# Altium schematic symbol library transistor.SchLib: 21 symbols
Pins are listed as number, name and electrical type; pins without a type are passive.

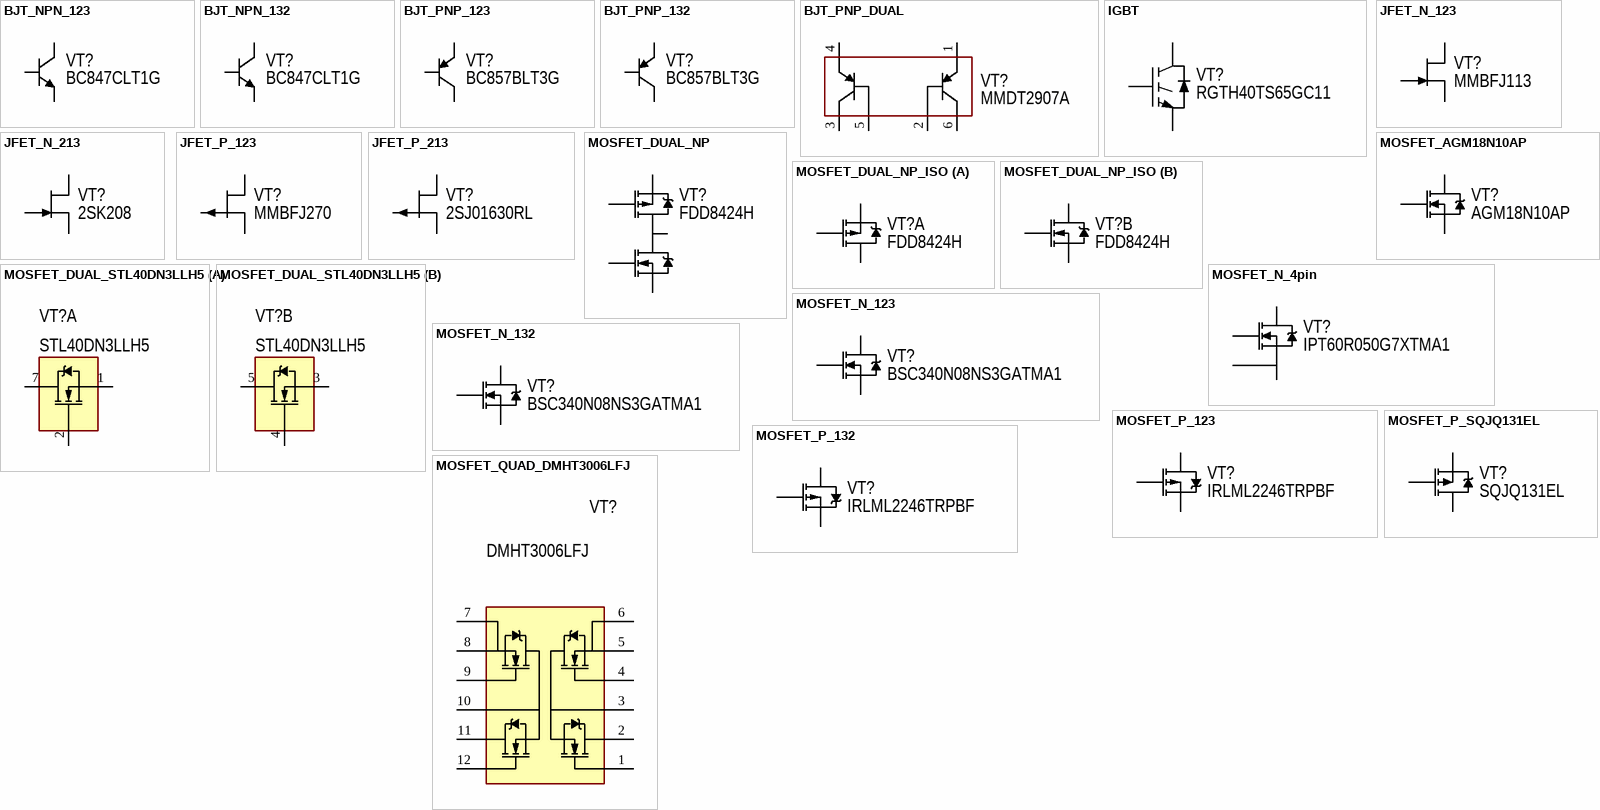
[diagram p0: symbols BJT_NPN_123 to MOSFET_QUAD_DMHT3006LFJ]

## BJT_NPN_123
designator VT?  PartNumber: BC847CLT1G
Manufacturer: ON Semiconductor; ValueManufacturerPartNumber: NPN transistor, 45V, 100mA, 100MHz, 300mW, 0.6V, 420, SOT-23, -55...+125°C; TypeTransistor: NPN transistor; VoltageCE: 45V; CurrentCE: 100mA; VoltageSaturation: 0.6V; Frequency: 100MHz; CurrentGain: 420; MaxPower: 300mW; Package: SOT-23; HelpURL: https://www.digikey.com/product-detail/en/on-semiconductor/BC847CLT1G/BC847CLT1GOSCT-ND/917836; Temperature: -55...+125°C
footprint DPAK
footprint D2PAK
footprint SOT23
footprint SOT89
footprint SOT223 (SOT223, 4-Leads, Body 6,50x7,00mm (avg), Pitch 2,30mm, IPC Medium Density)
footprint SC-70
pins: 1 B, 2 C, 3 E

## BJT_NPN_132
designator VT?  PartNumber: BC847CLT1G
Manufacturer: ON Semiconductor; ValueManufacturerPartNumber: NPN transistor, 45V, 100mA, 100MHz, 300mW, 0.6V, 420, SOT-23, -55...+125°C; TypeTransistor: NPN transistor; VoltageCE: 45V; CurrentCE: 100mA; VoltageSaturation: 0.6V; Frequency: 100MHz; CurrentGain: 420; MaxPower: 300mW; Package: SOT-23; HelpURL: https://www.digikey.com/product-detail/en/on-semiconductor/BC847CLT1G/BC847CLT1GOSCT-ND/917836; Temperature: -55...+125°C
footprint D2PAK
footprint DPAK
footprint SOT23
footprint SOT89
footprint SOT223 (SOT223, 4-Leads, Body 6,50x7,00mm (avg), Pitch 2,30mm, IPC Medium Density)
footprint SC-70
pins: 1 B, 2 E, 3 C

## BJT_PNP_123
designator VT?  PartNumber: BC857BLT3G
Manufacturer: ON Semiconductor; ValueManufacturerPartNumber: PNP transistor, 45V, 100mA, 100MHz, 300mW, 0.65V, 220, SOT-23, -55...+125°C; TypeTransistor: PNP transistor; VoltageCE: 45V; CurrentCE: 100mA; VoltageSaturation: 0.65V; Frequency: 100MHz; CurrentGain: 220; MaxPower: 300mW; Package: SOT-23; HelpURL: https://www.digikey.com/product-detail/en/on-semiconductor/BC857BLT3G/BC857BLT3GOSCT-ND/2704963; Temperature: -55...+125°C
footprint D2PAK
footprint DPAK
footprint SOT223 (SOT223, 4-Leads, Body 6,50x7,00mm (avg), Pitch 2,30mm, IPC Medium Density)
footprint SOT23
footprint SOT89
footprint SC-70
pins: 1 B, 2 E, 3 C

## BJT_PNP_132
designator VT?  PartNumber: BC857BLT3G
Manufacturer: ON Semiconductor; ValueManufacturerPartNumber: PNP transistor, 45V, 100mA, 100MHz, 300mW, 0.65V, 220, SOT-23, -55...+125°C; TypeTransistor: PNP transistor; VoltageCE: 45V; CurrentCE: 100mA; VoltageSaturation: 0.65V; Frequency: 100MHz; CurrentGain: 220; MaxPower: 300mW; Package: SOT-23; HelpURL: https://www.digikey.com/product-detail/en/on-semiconductor/BC857BLT3G/BC857BLT3GOSCT-ND/2704963; Temperature: -55...+125°C
footprint D2PAK
footprint DPAK
footprint SOT89
footprint SOT23
footprint SOT223 (SOT223, 4-Leads, Body 6,50x7,00mm (avg), Pitch 2,30mm, IPC Medium Density)
footprint SC-70
pins: 1 B, 2 C, 3 E

## BJT_PNP_DUAL
designator VT?  PartNumber: MMDT2907A
Manufacturer: Diodes Inc; ValueManufacturerPartNumber: PNP transistor, 60V, 600mA, 200MHz, 200mW, 1.6V, 100, SOT-363, -55...+125°C; TypeTransistor: PNP transistor; VoltageCE: 60V; CurrentCE: 600mA; VoltageSaturation: 1.6V; Frequency: 200MHz; CurrentGain: 100; MaxPower: 200mW; Package: SOT-363; HelpURL: https://www.diodes.com/assets/Datasheets/ds30109.pdf; Temperature: -55...+125°C
footprint SOT363
pins: 1 E, 2 B, 3 C, 4 E, 5 B, 6 C

## IGBT
designator VT?  PartNumber: RGTH40TS65GC11
Manufacturer: Rohm Semiconductor; ValueManufacturerPartNumber: IGBT transistor, 650V, 40A, 40nC, 144W, 2.1V, 22ns/73ns, TO247, -55...+125°C; TypeTransistor: IGBT transistor; VoltageCE: 650V; CurrentCE: 40A; VoltageSaturation: 2.1V; GateCharge: 40nC; TimeOnOff: 22ns/73ns; MaxPower: 144W; Package: TO247; HelpURL: https://www.digikey.com/product-detail/en/rohm-semiconductor/RGTH40TS65GC11/RGTH40TS65GC11-ND/5029953; Temperature: -55...+125°C
footprint TO220
footprint TO220(H)
footprint TO247 (3-Lead Plastic TO-247)
footprint TO247(H) (3-Lead Plastic TO-247)
pins: 1 G, 2 C, 3 E

## JFET_N_123
designator VT?  PartNumber: MMBFJ113
Manufacturer: ON Semiconductor; ValueManufacturerPartNumber: JFET N-Channel transistor, 35V, 2mA, 350mW, 100 Ohms, SOT-23, -55...+150°C; TypeTransistor: JFET N-Channel transistor; VoltageDS: 35V; CurrentDS: 2mA; RDS: 100 Ohms; MaxPower: 350mW; Package: SOT-23; HelpURL: https://www.digikey.com/product-detail/en/on-semiconductor/MMBFJ113/MMBFJ113TR-ND/1049302; Temperature: -55...+150°C
footprint SOT23
pins: 1 D, 2 S, 3 G

## JFET_N_213
designator VT?  PartNumber: 2SK208
Manufacturer: Toshiba Semiconductor and Storage; ValueManufacturerPartNumber: JFET N-Channel transistor, 50V, 6.5mA, 100mW, 100 Ohms, SOT-23, -55...+125°C; TypeTransistor: JFET N-Channel transistor; VoltageDS: 50V; CurrentDS: 6.5mA; RDS: 100 Ohms; MaxPower: 100mW; Package: SOT-23; HelpURL: https://www.digikey.com/product-detail/en/toshiba-semiconductor-and-storage/2SK208-R-TE85L-F/2SK208-R-TE85LF-TR-ND/4503056; Temperature: -55...+125°C
footprint SOT23
pins: 1 S, 2 D, 3 G

## JFET_P_123
designator VT?  PartNumber: MMBFJ270
Manufacturer: ON Semiconductor; ValueManufacturerPartNumber: JFET P-Channel transistor, 30V, 2mA, 225mW, 34mOhm, SOT-23, -55...+150°C; TypeTransistor: JFET P-Channel transistor; VoltageDS: 30V; CurrentDS: 2mA; RDS: 34mOhm; MaxPower: 225mW; Package: SOT-23; HelpURL: https://www.digikey.com/product-detail/en/on-semiconductor/MMBFJ270/MMBFJ270TR-ND/1050159; Temperature: -55...+150°C
footprint SOT23
pins: 1 D, 2 S, 3 G

## JFET_P_213
designator VT?  PartNumber: 2SJ01630RL
Manufacturer: Panasonic Electronic Components; ValueManufacturerPartNumber: JFET P-Channel transistor, 65V, 20mA, 150mW, 300 Ohms, SOT-23, -55...+150°C; TypeTransistor: JFET P-Channel transistor; VoltageDS: 65V; CurrentDS: 20mA; RDS: 300 Ohms; MaxPower: 150mW; Package: SOT-23; HelpURL: https://www.digikey.com/product-detail/en/panasonic-electronic-components/2SJ01630RL/2SJ01630RLTR-ND/972189; Temperature: -55...+150°C
footprint SOT23
pins: 1 S, 2 D, 3 G

## MOSFET_AGM18N10AP
designator VT?  PartNumber: AGM18N10AP
Manufacturer: AGM-Semi; ValueManufacturerPartNumber: MOSFET N-channel transistor, 100V, 35A, 12.5nC, 45W, 17mOhm, 573pF, PDFN-8, -55...+150°C; TypeTransistor: MOSFET N-channel transistor; VoltageDS: 100V; CurrentDS: 35A; RDS: 17mOhm; GateCharge: 12.5nC; InputCapacitor: 573pF; MaxPower: 45W; Package: PDFN-8; HelpURL: https://www.lcsc.com/product-detail/MOSFETs_AGM-Semi-AGM18N10AP_C7509649.html; Temperature: -55...+150°C
footprint 8-PDFN (3.3x3.3)
pins: D, G, S

## MOSFET_DUAL_NP
designator VT?  PartNumber: FDD8424H
Manufacturer: Fairchild; ValueManufacturerPartNumber: MOSFET P-channel transistor, 40, 20, N-14nC, P-17nC, 3.1W, N-24mOhm, P-54mOhm, N-750pF, P-1000pF, Dual DPAK 4L, -55...+150°C; TypeTransistor: MOSFET P-channel transistor; VoltageDS: 40; CurrentDS: 20; RDS: N-24mOhm, P-54mOhm; GateCharge: N-14nC, P-17nC; InputCapacitor: N-750pF, P-1000pF; MaxPower: 3.1W; Package: Dual DPAK 4L; HelpURL: https://www.mouser.com/datasheet/2/149/FDD8424H-92711.pdf; Temperature: -55...+150°C
footprint TO252-4L (Dual DPAK 4L)
pins: 1, 2, 3, 4, 5

## MOSFET_DUAL_NP_ISO
designator VT?  PartNumber: FDD8424H
Manufacturer: Fairchild; ValueManufacturerPartNumber: MOSFET P-channel transistor, 40, 20, N-14nC, P-17nC, 3.1W, N-24mOhm, P-54mOhm, N-750pF, P-1000pF, Dual DPAK 4L, -55...+150°C; TypeTransistor: MOSFET P-channel transistor; VoltageDS: 40; CurrentDS: 20; RDS: N-24mOhm, P-54mOhm; GateCharge: N-14nC, P-17nC; InputCapacitor: N-750pF, P-1000pF; MaxPower: 3.1W; Package: Dual DPAK 4L; HelpURL: https://www.mouser.com/datasheet/2/149/FDD8424H-92711.pdf; Temperature: -55...+150°C
footprint SOT563-6 (pitch 0.95 mm)
part A pins: 3, 4, 5
part B pins: 1, 2, 6

## MOSFET_DUAL_STL40DN3LLH5
designator VT?  PartNumber: STL40DN3LLH5
MOSFET Dual N-Ch 30V 11A 0.016 Ohm STripFET V; Manufacturer: STMicroelectronics; ValueManufacturerPartNumber: MOSFET N-channel transistor, 30V, 40A, 4.5nC, 60W, 16mOhm, 475pF, PowerFLAT-5x6-8, -55...+175°C; TypeTransistor: MOSFET N-channel transistor; CurrentDS: 40A; RDS: 16mOhm; GateCharge: 4.5nC; InputCapacitor: 475pF; MaxPower: 60W; Package: PowerFLAT-5x6-8; HelpURL: https://www.mouser.ee/datasheet/2/389/stl40dn3llh5-1851199.pdf; Temperature: -55...+175°C; VoltageDS: 30V
footprint PowerFLAT-Double (5x6)
part A pins: 1 S, 2 G, 7 D
part B pins: 3 S, 4 G, 5 D

## MOSFET_N_4pin
designator VT?  PartNumber: IPT60R050G7XTMA1
Manufacturer: Infineon Technologies; ValueManufacturerPartNumber: MOSFET N-channel transistor, 650V, 44A, 68nC, 245W, 50mOhm, 2670pF, 8-HSOF, -55...+150°C; TypeTransistor: MOSFET N-channel transistor; VoltageDS: 650V; CurrentDS: 44A; RDS: 50mOhm; GateCharge: 68nC; InputCapacitor: 2670pF; MaxPower: 245W; Package: 8-HSOF; HelpURL: https://www.digikey.com/product-detail/en/infineon-technologies/IPT60R050G7XTMA1/IPT60R050G7XTMA1CT-ND/8655796; Temperature: -55...+150°C
footprint HSOF-8-2 (8-HSOF)
pins: 1 G, 2 D, 3 S, 4 S

## MOSFET_N_123
designator VT?  PartNumber: BSC340N08NS3GATMA1
Manufacturer: Infineon Technologies; ValueManufacturerPartNumber: MOSFET N-channel transistor, 80V, 7A, 9.1nC, 2.5W, 34mOhm, 756pF, 8-TDSON, -55...+150°C; TypeTransistor: MOSFET N-channel transistor; VoltageDS: 80V; CurrentDS: 7A; RDS: 34mOhm; GateCharge: 9.1nC; InputCapacitor: 756pF; MaxPower: 2.5W; Package: 8-TDSON; HelpURL: https://www.digikey.com/product-detail/en/infineon-technologies/BSC340N08NS3GATMA1/BSC340N08NS3GATMA1TR-ND/2080655; Temperature: -55...+150°C
footprint SOT23
footprint TO220
footprint TO220(H)
footprint TO247 (3-Lead Plastic TO-247)
footprint TO247(H) (3-Lead Plastic TO-247)
footprint HSOF-8-1 (8-HSOF)
footprint 8-TDSON (pitch 1.3 mm, power pad)
footprint D2PAK
footprint DPAK
footprint SC-70
footprint 8-PowerWDFN
footprint 8-DFN Power (3x3, 0.5 mm) (3x3 mm, pitch 0.5 mm, power pad)
pins: 1 G, 2 D, 3 S

## MOSFET_N_132
designator VT?  PartNumber: BSC340N08NS3GATMA1
Manufacturer: Infineon Technologies; ValueManufacturerPartNumber: MOSFET N-channel transistor, 80V, 7A, 9.1nC, 2.5W, 34mOhm, 756pF, 8-TDSON, -55...+150°C; TypeTransistor: MOSFET N-channel transistor; VoltageDS: 80V; CurrentDS: 7A; RDS: 34mOhm; GateCharge: 9.1nC; InputCapacitor: 756pF; MaxPower: 2.5W; Package: 8-TDSON; HelpURL: https://www.digikey.com/product-detail/en/infineon-technologies/BSC340N08NS3GATMA1/BSC340N08NS3GATMA1TR-ND/2080655; Temperature: -55...+150°C
footprint SOT23
footprint D2PAK
footprint DPAK
footprint SC-70
footprint SOT323
pins: 1 G, 2 S, 3 D

## MOSFET_P_123
designator VT?  PartNumber: IRLML2246TRPBF
Manufacturer: Infineon Technologies; ValueManufacturerPartNumber: MOSFET P-channel transistor, 20V, 2.6A, 2.9nC, 2.5W, 135mOhm, 220pF, SOT-23, -55...+150°C; TypeTransistor: MOSFET P-channel transistor; VoltageDS: 20V; CurrentDS: 2.6A; RDS: 135mOhm; GateCharge: 2.9nC; InputCapacitor: 220pF; MaxPower: 2.5W; Package: SOT-23; HelpURL: https://www.digikey.com/product-detail/en/infineon-technologies/IRLML2246TRPBF/IRLML2246TRPBFCT-ND/2639576; Temperature: -55...+150°C
footprint SOT23
footprint D2PAK
footprint DPAK
footprint SC-70
footprint TO220
pins: 1 G, 2 D, 3 S

## MOSFET_P_132
designator VT?  PartNumber: IRLML2246TRPBF
Manufacturer: Infineon Technologies; ValueManufacturerPartNumber: MOSFET P-channel transistor, 20V, 2.6A, 2.9nC, 2.5W, 135mOhm, 220pF, SOT-23, -55...+150°C; TypeTransistor: MOSFET P-channel transistor; VoltageDS: 20V; CurrentDS: 2.6A; RDS: 135mOhm; GateCharge: 2.9nC; InputCapacitor: 220pF; MaxPower: 2.5W; Package: SOT-23; HelpURL: https://www.digikey.com/product-detail/en/infineon-technologies/IRLML2246TRPBF/IRLML2246TRPBFCT-ND/2639576; Temperature: -55...+150°C
footprint SOT23
footprint D2PAK
footprint DPAK
footprint SC-70
footprint SOT323
pins: 1 G, 2 S, 3 D

## MOSFET_P_SQJQ131EL
designator VT?  PartNumber: SQJQ131EL
Manufacturer: Vishay; TypeTransistor: MOSFET P-channel transistor; VoltageDS: 30V; CurrentDS: 280A; RDS: 1.4mOhm; GateCharge: 86nC; InputCapacitor: 23.5nF; MaxPower: 600W; Package: PowerPAK; HelpURL: https://www.vishay.com/docs/77936/sqjq131el.pdf; Temperature: -55...+150°C
footprint PowerPAK (8x8 mm)
pins: 1 G, 2 D, 3 S

## MOSFET_QUAD_DMHT3006LFJ
designator VT?  PartNumber: DMHT3006LFJ
Manufacturer: Diodes Incorporated; ValueManufacturerPartNumber: MOSFET N-channel transistor, 30V, 13A, 17nC, 1.3W, 10mOhm, 1171pF, V-DFN5045-12, -55...+150°C; TypeTransistor: MOSFET N-channel transistor; VoltageDS: 30V; CurrentDS: 13A; RDS: 10mOhm; GateCharge: 17nC; InputCapacitor: 1171pF; MaxPower: 1.3W; Package: V-DFN5045-12; HelpURL: https://www.mouser.ee/ProductDetail/Diodes-Incorporated/DMHT3006LFJ-13?qs=PqoDHHvF64%2FIw5fnwz%252BNTw%3D%3D; Temperature: -55...+150°C
footprint V-DFN5045-12 (MOSFET)
pins: 1 G1, 2 D1, 3 S1/D2, 4 G2, 5 S2, 6 S2, 7 S3, 8 S3, 9 G3, 10 S4/D3, 11 D4, 12 G4